# Altium schematic symbol library Modules.SchLib: 7 symbols
Pins are listed as number, name and electrical type; pins without a type are passive.

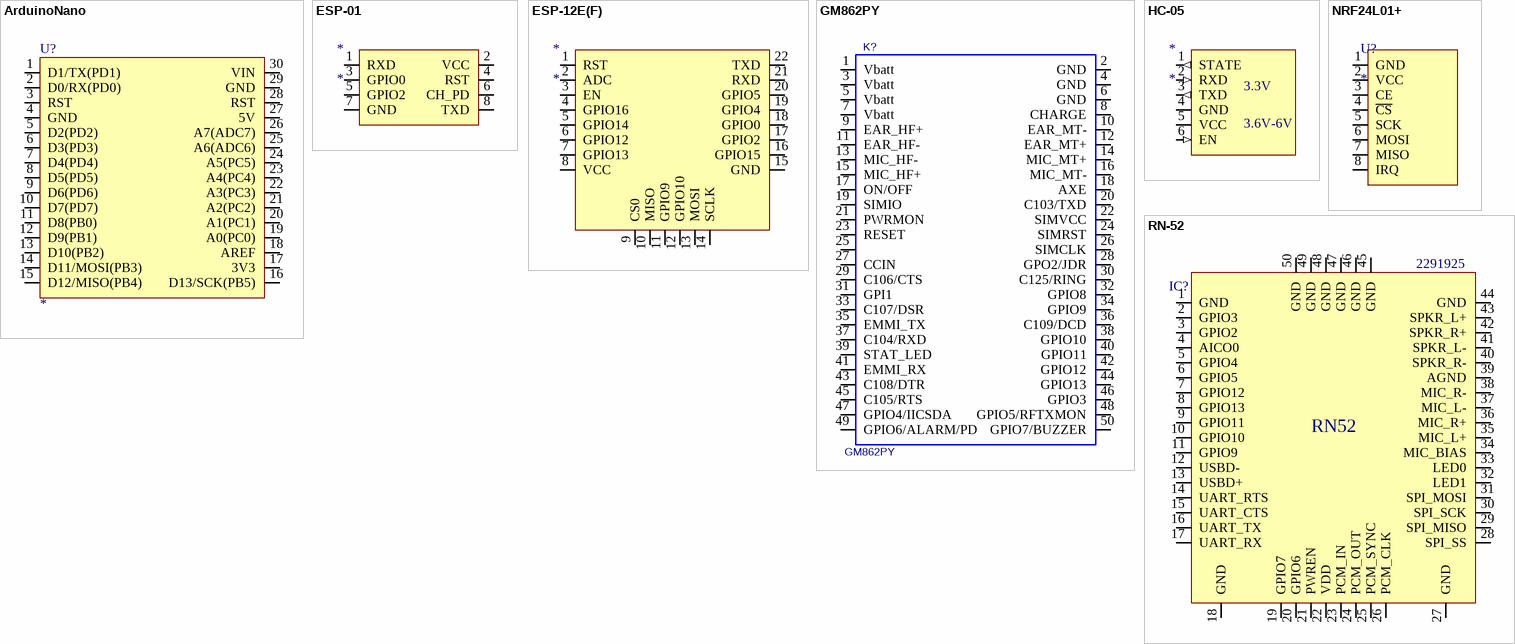
[diagram p0: symbols ArduinoNano to RN-52]

## ArduinoNano
designator U?
Arduino Nano
footprint ArduinoNano
pins: 1 D1/TX(PD1), 2 D0/RX(PD0), 3 RST, 4 GND, 5 D2(PD2), 6 D3(PD3), 7 D4(PD4), 8 D5(PD5), 9 D6(PD6), 10 D7(PD7), 11 D8(PB0), 12 D9(PB1), 13 D10(PB2), 14 D11/MOSI(PB3), 15 D12/MISO(PB4), 16 D13/SCK(PB5), 17 3V3, 18 AREF, 19 A0(PC0), 20 A1(PC1), 21 A2(PC2), 22 A3(PC3), 23 A4(PC4), 24 A5(PC5), 25 A6(ADC6), 26 A7(ADC7), 27 5V, 28 RST, 29 GND, 30 VIN

## ESP-01
designator *
footprint ESP01
pins: 1 RXD, 2 VCC, 3 GPIO0, 4 RST, 5 GPIO2, 6 CH_PD, 7 GND, 8 TXD

## ESP-12E(F)
designator *
footprint ESP_12_E
pins: 1 RST, 2 ADC, 3 EN, 4 GPIO16, 5 GPIO14, 6 GPIO12, 7 GPIO13, 8 VCC, 9 CS0, 10 MISO, 11 GPIO9, 12 GPIO10, 13 MOSI, 14 SCLK, 15 GND, 16 GPIO15, 17 GPIO2, 18 GPIO0, 19 GPIO4, 20 GPIO5, 21 RXD, 22 TXD

## GM862PY
designator K?
Value: *
footprint Telit GM862
pins: 1 Vbatt (power), 2 GND (power), 3 Vbatt (power), 4 GND (power), 5 Vbatt (power), 6 GND (power), 7 Vbatt (power), 8 CHARGE, 9 EAR_HF+, 10 EAR_MT-, 11 EAR_HF-, 12 EAR_MT+, 13 MIC_HF-, 14 MIC_MT+, 15 MIC_HF+, 16 MIC_MT-, 17 ON/OFF, 18 AXE, 19 SIMIO, 20 C103/TXD, 21 PWRMON, 22 SIMVCC, 23 RESET, 24 SIMRST, 25, 26 SIMCLK, 27 CCIN, 28 GPO2/JDR, 29 C106/CTS, 30 C125/RING, 31 GPI1, 32 GPIO8, 33 C107/DSR, 34 GPIO9, 35 EMMI_TX, 36 C109/DCD, 37 C104/RXD, 38 GPIO10, 39 STAT_LED, 40 GPIO11, 41 EMMI_RX, 42 GPIO12, 43 C108/DTR, 44 GPIO13, 45 C105/RTS, 46 GPIO3, 47 GPIO4/IICSDA, 48 GPIO5/RFTXMON, 49 GPIO6/ALARM/PD, 50 GPIO7/BUZZER, 51 GND (power) hidden, 52 GND (power) hidden, 53 GND (power) hidden, 54 GND (power) hidden, 55 GND (power) hidden, 56 GND (power) hidden, 57 GND (power) hidden, 58 GND (power) hidden, 59 GND (power) hidden, 60 GND (power) hidden, 61 GND (power) hidden

## HC-05
designator *
footprint HC05-horizontal
footprint HC05-horizontal-direct
footprint HC05-vertical
pins: 1 STATE (out), 2 RXD (in), 3 TXD (out), 4 GND (power), 5 VCC (power), 6 EN (in)
text: 3.3V; 3.6V-6V

## NRF24L01+
designator U?
2.4GHz low power, long range module
footprint NRF24L01+smd_module
footprint NRF24L01+tht_module
pins: 1 GND, 2 VCC, 3 CE, 4 ~{CS}, 5 SCK, 6 MOSI, 7 MISO, 8 IRQ

## RN-52
designator IC?  Supplier Part Number 1: 2291925  (hidden comment: *)
Supplier 1: Farnell
footprint RN52 (RN52 module - custom footprint)
pins: 1 GND, 2 GPIO3, 3 GPIO2, 4 AICO0, 5 GPIO4, 6 GPIO5, 7 GPIO12, 8 GPIO13, 9 GPIO11, 10 GPIO10, 11 GPIO9, 12 USBD-, 13 USBD+, 14 UART_RTS, 15 UART_CTS, 16 UART_TX, 17 UART_RX, 18 GND, 19 GPIO7, 20 GPIO6, 21 PWREN, 22 VDD, 23 PCM_IN, 24 PCM_OUT, 25 PCM_SYNC, 26 PCM_CLK, 27 GND, 28 SPI_SS, 29 SPI_MISO, 30 SPI_SCK, 31 SPI_MOSI, 32 LED1, 33 LED0, 34 MIC_BIAS, 35 MIC_L+, 36 MIC_R+, 37 MIC_L-, 38 MIC_R-, 39 AGND, 40 SPKR_R-, 41 SPKR_L-, 42 SPKR_R+, 43 SPKR_L+, 44 GND, 45 GND, 46 GND, 47 GND, 48 GND, 49 GND, 50 GND
text: RN52